# EAGLE library part 207018-1 (library Doc-Test_Interface)
Line and Systme Power
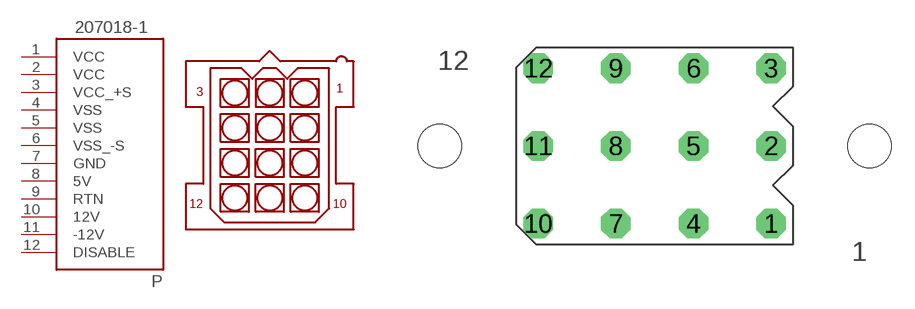
[diagram p3: symbol with the pads of 207120; footprint 207120]

Designator prefix P

## 207018-1  [207120]
1  VCC  pwr
2  VCC  pwr
3  VCC_+S  pas
4  VSS  pwr
5  VSS  pwr
6  VSS_-S  pas
7  GND  pwr
8  5V  pwr
9  RTN  pwr
10  12V  pwr
11  -12V  pwr
12  DISABLE  pwr

## Footprint 207120 (pad centres in mm)
207120 Metrimate 12 Pin Header 207018 Metrimate 12 Pin Receptacle, which is not board mounted
drill 1.27 octagon: 1 7.5,-5; 2 7.5,0; 3 7.5,5; 4 2.5,-5; 5 2.5,0; 6 2.5,5; 7 -2.5,-5; 8 -2.5,0; 9 -2.5,5; 10 -7.5,-5; 11 -7.5,0; 12 -7.5,5
hole 2.794 at -13.843,0
hole 2.794 at 13.843,0